# Altium footprint library NCP164.PcbLib: 3 footprints
Each footprint in its own frame and in the unit in brackets; x right, y up, seen from the top. Pads: shape width x height; smd on the part's side, far side on the other; paste and mask are expansions set on the pad; w line width, h text height; cw(c..) or ccw(c..) is an arc to the next point about the centre after c.
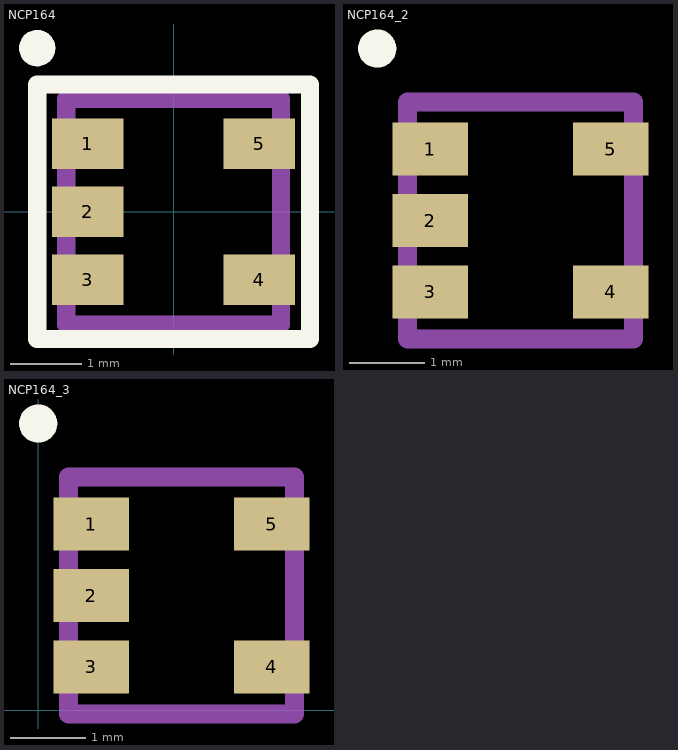
[diagram p0: the footprints below, top view; thin cyan lines are the x and y axes]

## NCP164 [mm]
pads (5):
  rect 1x0.7 smd: 1(-1.2,0.95) 2(-1.2,0) 3(-1.2,-0.95) 4(1.2,-0.95) 5(1.2,0.95)
Top Overlay:
  circle w0.254: c-1.905,2.286 r0.127
  lines w0.254: -1.905,-1.778 1.905,-1.778 1.905,1.778 -1.905,1.778 -1.905,-1.778
Mechanical 1:
  lines w0.254: -1.5,-1.575 -1.5,1.575 1.5,1.575 1.5,-1.575 -1.5,-1.575
3D body: height 0.75, standoff -0.25, extent -1.27,-1.524 1.27,1.524

## NCP164_2 [mm]
pads (5):
  rect 1x0.7 smd: 1(1.34,2.855) 2(1.34,1.905) 3(1.34,0.955) 4(3.74,0.955) 5(3.74,2.855)
Top Overlay:
  circle w0.254: c0.635,4.191 r0.127
Mechanical 1:
  lines w0.254: 1.04,0.33 4.04,0.33 4.04,3.48 1.04,3.48 1.04,0.33
3D body: height 0.75, standoff -0.25, extent 1.27,0.381 3.81,3.429

## NCP164_3 [mm]
pads (5):
  rect 1x0.7 smd: 1(0.705,2.474) 2(0.705,1.524) 3(0.705,0.574) 4(3.105,0.574) 5(3.105,2.474)
Top Overlay:
  circle w0.254: c0,3.81 r0.127
Mechanical 1:
  lines w0.254: 0.405,-0.051 3.405,-0.051 3.405,3.099 0.405,3.099 0.405,-0.051
3D body: height 0.75, standoff -0.25, extent 0.635,0 3.175,3.048